# Altium schematic symbol library SCH - POWER - MODULE - TI - UCC28911DR.SCHLIB: 1 symbol
Pins are listed as number, name and electrical type; pins without a type are passive.

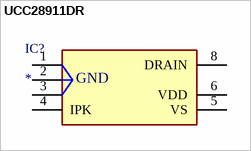
[diagram p0: symbol UCC28911DR]

## UCC28911DR
designator IC?
Integrated Circuit; Manufacturer_Name: Texas Instruments; Manufacturer_Part_Number: UCC28911DR; Description: 700V Flyback Switcher with Constant-Voltage Constant-Current and Primary-side Regulation; Datasheet Link: http://www.ti.com/lit/gpn/ucc28911; Height: 1.75mm; Mouser Part Number: 595-UCC28911DR; Mouser Price/Stock: https://www.mouser.co.uk/ProductDetail/Texas-Instruments/UCC28911DR?qs=jpHf3Ogds1xh3ogFzhS5FA%3D%3D; Arrow Part Number: UCC28911DR; Arrow Price/Stock: https://www.arrow.com/en/products/ucc28911dr/texas-instruments?region=nac
pins: 1 GND_1, 2 GND_2, 3 GND_3, 4 IPK, 5 VS, 6 VDD, 8 DRAIN
text: GND